# EAGLE library part HMC1512 (library honeywell)
Magnetic Sensor Linear / Angular / Rotary Displacement Sensor
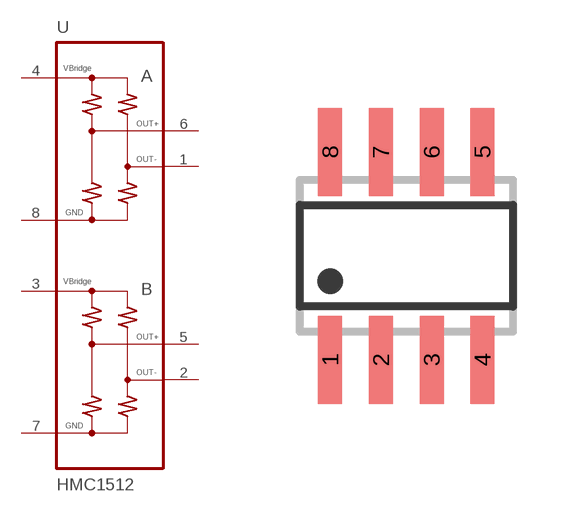
[diagram p0: symbol with the pads of SO08; footprint SO08]

Designator prefix U

## HMC1512  [SO08]
1  OUT-A  pas
2  OUT-B  pas
3  VBRIDGE-B  pas
4  VBRIDGE-A  pas
5  OUT+B  pas
6  OUT+A  pas
7  GND-B  pas
8  GND-A  pas

## Footprint SO08 (pad centres in mm)
SMALL OUTLINE INTEGRATED CIRCUIT body 3.9 mm/JEDEC MS-012AA
smd 0.6 x 2.2: 1 -1.905,-2.6; 2 -0.635,-2.6; 3 0.635,-2.6; 4 1.905,-2.6; 5 1.905,2.6; 6 0.635,2.6; 7 -0.635,2.6; 8 -1.905,2.6